# Altium schematic symbol library SCH - POWER - SWITCHMODE - TI TPS61100_RGE_24.SchLib: 1 symbol
Pins are listed as number, name and electrical type; pins without a type are passive.

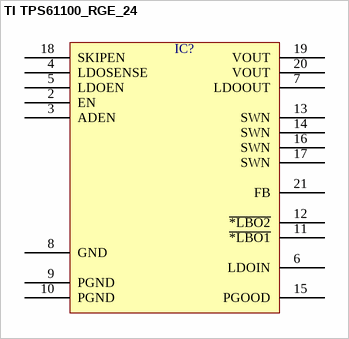
[diagram p0: symbol TI TPS61100_RGE_24]

## TI TPS61100_RGE_24
designator IC?  (value not drawn)
pins: 2 EN, 3 ADEN, 4 LDOSENSE, 5 LDOEN, 6 LDOIN, 7 LDOOUT, 8 GND, 9 PGND, 10 PGND, 11 ~{*LBO1}, 12 ~{*LBO2}, 13 SWN, 14 SWN, 15 PGOOD, 16 SWN, 17 SWN, 18 SKIPEN, 19 VOUT, 20 VOUT, 21 FB